# EAGLE library part THVD1439VDR (library THVD1439VDR)
THVD1439VDR Source: Datasheet <https://www.ti.com/lit/ds/symlink/thvd1439.pdf?ts=1633978341702&ref_url=https%3A%2F%2Fwww.ti.com%2Fproduct%2FTHVD1439>
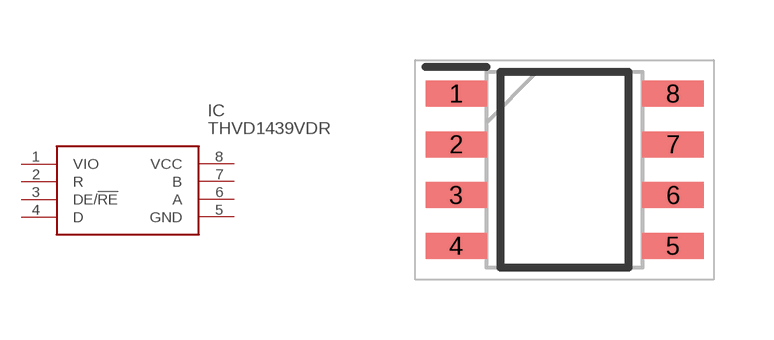
[diagram p0: symbol with the pads of SOIC127P600X175-8N; footprint SOIC127P600X175-8N]

Designator prefix IC

## THVD1439VDR (Description: THVD1439VDR; Height: 1.75mm; Manufacturer_Name: Texas Instruments; Manufacturer_Part_Number: THVD1439VDR; Mouser_Part_Number: 595-THVD1439VDR; Mouser_Price-Stock: https://www.mouser.co.uk/ProductDetail/Texas-Instruments/THVD1439VDR?qs=A6eO%252BMLsxmTh8OKfR5%2FZSA%3D%3D)  [SOIC127P600X175-8N]
1  VIO
2  R
3  DE/!RE
4  D
5  GND
6  A
7  B
8  VCC

## Footprint SOIC127P600X175-8N (pad centres in mm)
D
smd 1.528 x 0.65: 1 -2.711,1.905; 2 -2.711,0.635; 3 -2.711,-0.635; 4 -2.711,-1.905; 5 2.711,-1.905; 6 2.711,-0.635; 7 2.711,0.635; 8 2.711,1.905